# EAGLE library part 61901011021 (library Wuerth_Elektronik_eiCan_Wire_to_Board_Connectors v1.2)
WR-WTB 2.54mm Right Angled Locking Header Bottom Locking, 10 Pins
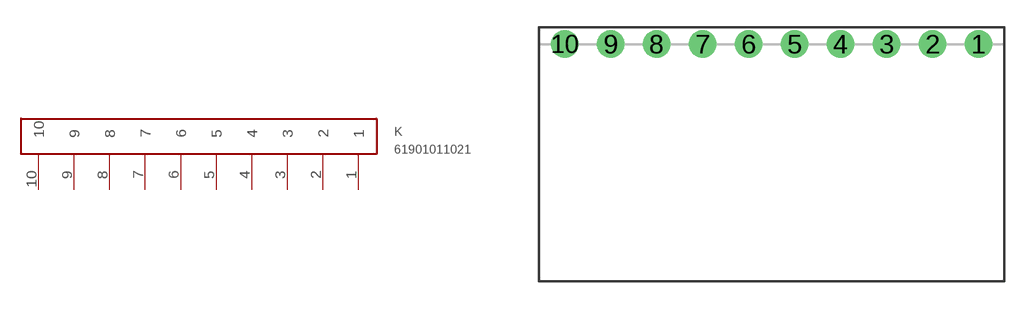
[diagram p10: symbol with the pads of 61901011021; footprint 61901011021]

Designator prefix K

## 61901011021  [61901011021]
1  1
2  2
3  3
4  4
5  5
6  6
7  7
8  8
9  9
10  10

## Footprint 61901011021 (pad centres in mm)
WR-WTB 2.54mm Right Angled Locking Header Bottom Locking, 10 Pins
drill 1 round: 1 1.27,0; 2 -1.27,0; 3 -3.81,0; 4 -6.35,0; 5 -8.89,0; 6 -11.43,0; 7 -13.97,0; 8 -16.51,0; 9 -19.05,0; 10 -21.59,0